# Altium integrated library 10K_Trimmer.IntLib: 1 symbol
Pins are listed as number, name and electrical type; pins without a type are passive.

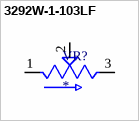
[diagram p0: symbol 3292W-1-103LF]

## 3292W-1-103LF
designator VR?
Res Cermet Trimmer 10K Ohm 10% 1/2W 25(Elec)Turn 2.29mm (9.53 X 3.81 X 11.05mm) Pin Thru-Hole Tube; MF: Bourns; MP: 3292W-1-103LF; Price: None; SnapEDA_Link: https://www.snapeda.com/parts/3292W-1-103LF/Bourns/view-part/462346/?ref=snap; Availability: In Stock; Value: *; Check_prices: https://www.snapeda.com/parts/3292W-1-103LF/Bourns/view-part/462346/?ref=eda; Package: 3224X Bourns
footprint TRIM_3292W-1-103LF
pins: 1, 2, 3